# EAGLE library part AD9200 (library led_oscilloscope)
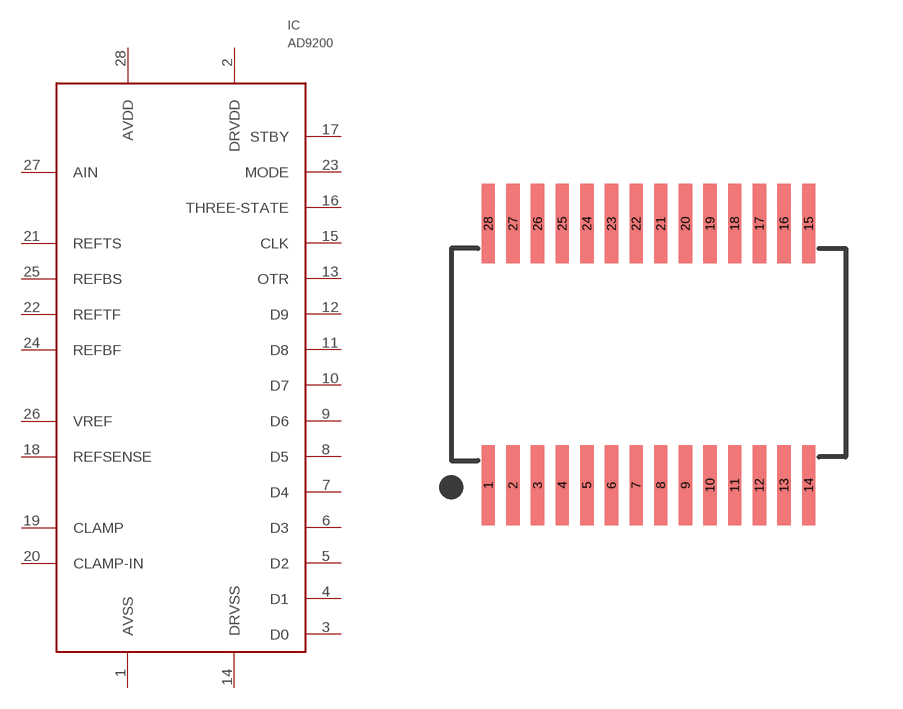
[diagram p1: symbol with the pads of SSOP-28; footprint SSOP-28]

Designator prefix IC

## AD9200  [SSOP-28]
1  AVSS
2  DRVDD
3  D0
4  D1
5  D2
6  D3
7  D4
8  D5
9  D6
10  D7
11  D8
12  D9
13  OTR
14  DRVSS
15  CLK
16  THREE-STATE
17  STBY
18  REFSENSE
19  CLAMP
20  CLAMP-IN
21  REFTS
22  REFTF
23  MODE
24  REFBF
25  REFBS
26  VREF
27  AIN
28  AVDD

## Footprint SSOP-28 (pad centres in mm)
smd 0.35 x 2.1: 1 -4.225,-3.45; 2 -3.575,-3.45; 3 -2.925,-3.45; 4 -2.275,-3.45; 5 -1.625,-3.45; 6 -0.975,-3.45; 7 -0.325,-3.45; 8 0.325,-3.45; 9 0.975,-3.45; 10 1.625,-3.45; 11 2.275,-3.45; 12 2.925,-3.45; 13 3.575,-3.45; 14 4.225,-3.45; 15 4.225,3.45; 16 3.575,3.45; 17 2.925,3.45; 18 2.275,3.45; 19 1.625,3.45; 20 0.975,3.45; 21 0.325,3.45; 22 -0.325,3.45; 23 -0.975,3.45; 24 -1.625,3.45; 25 -2.275,3.45; 26 -2.925,3.45; 27 -3.575,3.45; 28 -4.225,3.45